# Altium schematic symbol library ME218D_GM_2017.SchLib: 11 symbols
Pins are listed as number, name and electrical type; pins without a type are passive.

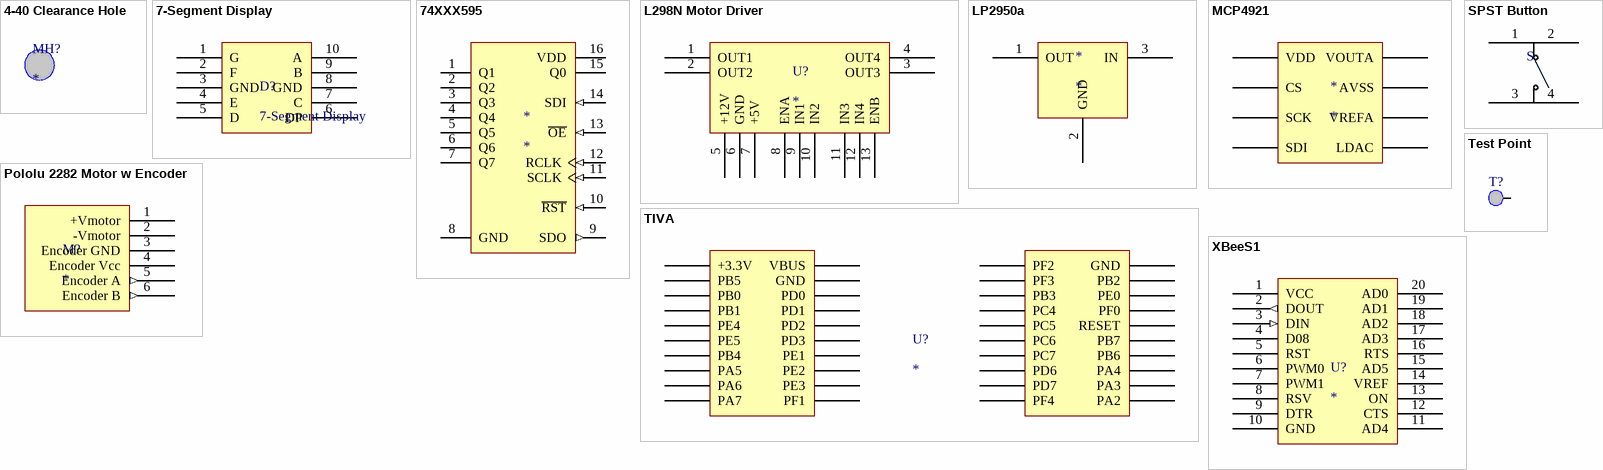
[diagram p0: symbols 4-40 Clearance Hole to XBeeS1]

## 4-40 Clearance Hole
designator MH?
footprint 4-40 Clearance Hole
footprint 4-40 Clearance Hole

## 7-Segment Display
designator D?
Vf_typical: 2.05; Vf_max: 2.6
pins: 1 G, 2 F, 3 GND, 4 E, 5 D, 6 DP, 7 C, 8 GND, 9 B, 10 A

## 74XXX595
designator *
pins: 1 Q1 (hiz), 2 Q2 (hiz), 3 Q3 (hiz), 4 Q4 (hiz), 5 Q5 (hiz), 6 Q6 (hiz), 7 Q7 (hiz), 8 GND (power), 9 SDO (out), 10 ~{RST} (in), 11 SCLK (in), 12 RCLK (in), 13 ~{OE} (in), 14 SDI (in), 15 Q0 (hiz), 16 VDD (power)

## L298N Motor Driver
designator U?
pins: 1 OUT1, 2 OUT2, 3 OUT3, 4 OUT4, 5 +12V, 6 GND, 7 +5V, 8 ENA, 9 IN1, 10 IN2, 11 IN3, 12 IN4, 13 ENB

## LP2950a
designator *
100mA 3.3V Volt Reg
footprint Model Name (Footprint not found)
pins: 1 OUT, 2 GND, 3 IN

## MCP4921
designator *
pins: 0 VDD, 1 CS, 2 SCK, 3 SDI, 4 VOUTA, 5 AVSS, 6 VREFA, 7 LDAC

## Pololu 2282 Motor w Encoder
designator M?
pins: 1 +Vmotor, 2 -Vmotor, 3 Encoder GND (power), 4 Encoder Vcc (power), 5 Encoder A (out), 6 Encoder B (out)

## SPST Button
designator S, comment SPST Button Jameco 122973  (value not drawn)
footprint SPST Button (SPST Button Jameco 122973)
pins: 1, 2, 3, 4

## Test Point
designator T?  (value not drawn)
footprint Test Point
pins: 1

## TIVA
designator U?
EK-TM4C123GXL
footprint Tiva (Tiva TM4C123G LaunchPad)
pins: 1 +3.3V (power), 2 PB5, 3 PB0, 4 PB1, 5 PE4, 6 PE5, 7 PB4, 8 PA5, 9 PA6, 10 PA7, 11 PF1, 12 PE3, 13 PE2, 14 PE1, 15 PD3, 16 PD2, 17 PD1, 18 PD0, 19 GND (power), 20 VBUS, 21 PF2, 22 PF3, 23 PB3, 24 PC4, 25 PC5, 26 PC6, 27 PC7, 28 PD6, 29 PD7, 30 PF4, 31 PA2, 32 PA3, 33 PA4, 34 PB6, 35 PB7, 36 RESET, 37 PF0, 38 PE0, 39 PB2, 40 GND

## XBeeS1
designator U?
XBee S1 Radio Module with headers
footprint XBeeS1
pins: 1 VCC (power), 2 DOUT (out), 3 DIN (in), 4 D08, 5 RST, 6 PWM0, 7 PWM1, 8 RSV, 9 DTR, 10 GND (power), 11 AD4, 12 CTS, 13 ON, 14 VREF, 15 AD5, 16 RTS, 17 AD3, 18 AD2, 19 AD1, 20 AD0